# Altium footprint library Logic - Translators, Level Shifters.PcbLib: 3 footprints
Each footprint in its own frame and in the unit in brackets; x right, y up, seen from the top. Pads: shape width x height; smd on the part's side, far side on the other; paste and mask are expansions set on the pad; w line width, h text height; cw(c..) or ccw(c..) is an arc to the next point about the centre after c.
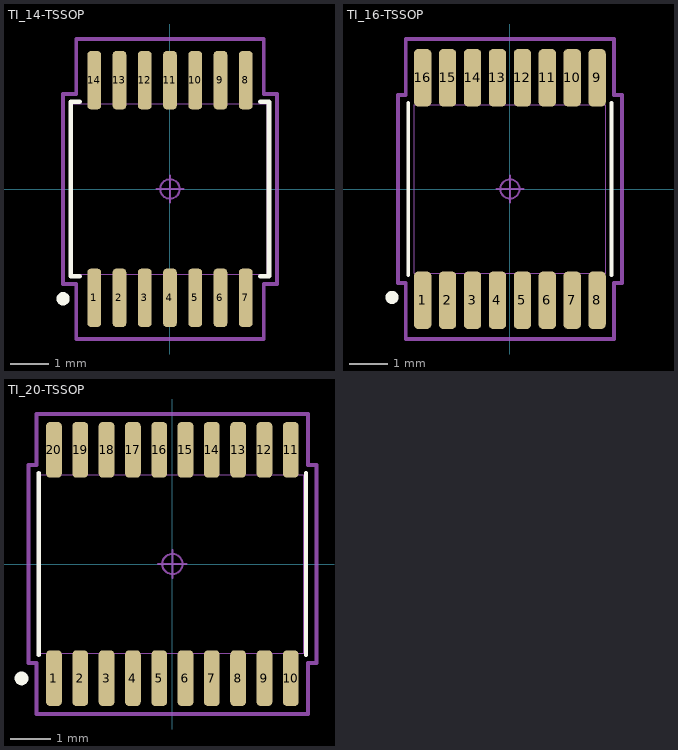
[diagram p0: the footprints below, top view; thin cyan lines are the x and y axes]

## TI_14-TSSOP [mm]
pads (14):
  rrect51% 0.35x1.5 smd mask+0.04: 1(-1.95,-2.8) 2(-1.3,-2.8) 3(-0.65,-2.8) 4(0,-2.8) 5(0.65,-2.8) 6(1.3,-2.8) 7(1.95,-2.8) 8(1.95,2.8) 9(1.3,2.8) 10(0.65,2.8) 11(0,2.8) 12(-0.65,2.8) 13(-1.3,2.8) 14(-1.95,2.8)
Top Overlay:
  circle w0.24: c-2.75,-2.825 r0.05
  lines w0.12: -2.325,-2.25 -2.55,-2.25 -2.55,2.25 -2.325,2.25 ; 2.325,-2.25 2.55,-2.25 2.55,2.25 2.325,2.25
Mechanical 13:
  lines w0.025: -2.5,-2.2 -2.5,2.2 2.5,2.2 2.5,-2.2 -2.5,-2.2 ; -2.073,-3.2 -2.073,-2.575 -1.827,-2.575 -1.827,-3.2 -2.073,-3.2 ; -2.073,2.575 -2.073,3.2 -1.827,3.2 -1.827,2.575 -2.073,2.575 ; -1.422,-3.2 -1.178,-3.2 -1.178,-2.575 -1.422,-2.575 -1.422,-3.2 ; -1.422,2.575 -1.178,2.575 -1.178,3.2 -1.422,3.2 -1.422,2.575 ; -0.773,-3.2 -0.527,-3.2 -0.527,-2.575 -0.773,-2.575 -0.773,-3.2 ; -0.773,2.575 -0.527,2.575 -0.527,3.2 -0.773,3.2 -0.773,2.575 ; -0.122,-3.2 -0.122,-2.575 0.122,-2.575 0.122,-3.2 -0.122,-3.2 ; -0.122,2.575 -0.122,3.2 0.122,3.2 0.122,2.575 -0.122,2.575 ; 0.527,-3.2 0.773,-3.2 0.773,-2.575 0.527,-2.575 0.527,-3.2 ; 0.527,2.575 0.773,2.575 0.773,3.2 0.527,3.2 0.527,2.575 ; 1.178,-3.2 1.422,-3.2 1.422,-2.575 1.178,-2.575 1.178,-3.2 ; 1.178,2.575 1.422,2.575 1.422,3.2 1.178,3.2 1.178,2.575 ; 1.827,-3.2 1.827,-2.575 2.073,-2.575 2.073,-3.2 1.827,-3.2 ; 1.827,2.575 1.827,3.2 2.073,3.2 2.073,2.575 1.827,2.575
Mechanical 15:
  circle w0.05: c0,0 r0.25
  lines w0.05: -0.35,0 0.35,0 ; 0,-0.35 0,0.35
  lines w0.1: -2.75,-2.45 -2.75,2.45 -2.413,2.45 -2.413,3.861 2.413,3.861 2.413,2.45 2.75,2.45 2.75,-2.45 2.413,-2.45 2.413,-3.861 -2.413,-3.861 -2.413,-2.45 -2.75,-2.45
3D body "PW0014A.stp": height 1.13, standoff 0, extent -2.5,-3.2 2.5,3.2

## TI_16-TSSOP [mm]
pads (16):
  rrect51% 0.45x1.5 smd mask+0.04: 1(-2.275,-2.9) 2(-1.625,-2.9) 3(-0.975,-2.9) 4(-0.325,-2.9) 5(0.325,-2.9) 6(0.975,-2.9) 7(1.625,-2.9) 8(2.275,-2.9) 9(2.275,2.9) 10(1.625,2.9) 11(0.975,2.9) 12(0.325,2.9) 13(-0.325,2.9) 14(-0.975,2.9) 15(-1.625,2.9) 16(-2.275,2.9)
Top Overlay:
  circle w0.24: c-3.075,-2.825 r0.05
  lines w0.1: -2.65,-2.25 -2.65,2.25 ; 2.65,-2.25 2.65,2.25
Mechanical 13:
  lines w0.025: -2.5,-2.2 -2.5,2.2 2.5,2.2 2.5,-2.2 -2.5,-2.2 ; -2.398,-3.2 -2.153,-3.2 -2.153,-2.575 -2.398,-2.575 -2.398,-3.2 ; -2.398,2.575 -2.153,2.575 -2.153,3.2 -2.398,3.2 -2.398,2.575 ; -1.747,-3.2 -1.502,-3.2 -1.502,-2.575 -1.747,-2.575 -1.747,-3.2 ; -1.747,2.575 -1.502,2.575 -1.502,3.2 -1.747,3.2 -1.747,2.575 ; -1.098,-3.2 -0.853,-3.2 -0.853,-2.575 -1.098,-2.575 -1.098,-3.2 ; -1.098,2.575 -0.853,2.575 -0.853,3.2 -1.098,3.2 -1.098,2.575 ; -0.447,-3.2 -0.202,-3.2 -0.202,-2.575 -0.447,-2.575 -0.447,-3.2 ; -0.447,2.575 -0.202,2.575 -0.202,3.2 -0.447,3.2 -0.447,2.575 ; 0.202,-3.2 0.447,-3.2 0.447,-2.575 0.202,-2.575 0.202,-3.2 ; 0.202,2.575 0.447,2.575 0.447,3.2 0.202,3.2 0.202,2.575 ; 0.853,-3.2 1.098,-3.2 1.098,-2.575 0.853,-2.575 0.853,-3.2 ; 0.853,2.575 1.098,2.575 1.098,3.2 0.853,3.2 0.853,2.575 ; 1.502,-3.2 1.747,-3.2 1.747,-2.575 1.502,-2.575 1.502,-3.2 ; 1.502,2.575 1.747,2.575 1.747,3.2 1.502,3.2 1.502,2.575 ; 2.153,-3.2 2.398,-3.2 2.398,-2.575 2.153,-2.575 2.153,-3.2 ; 2.153,2.575 2.398,2.575 2.398,3.2 2.153,3.2 2.153,2.575
Mechanical 15:
  circle w0.05: c0,0 r0.25
  lines w0.05: -0.35,0 0.35,0 ; 0,-0.35 0,0.35
  lines w0.1: -2.921,-2.45 -2.921,2.45 -2.718,2.45 -2.718,3.912 2.718,3.912 2.718,2.45 2.921,2.45 2.921,-2.45 2.718,-2.45 2.718,-3.912 -2.718,-3.912 -2.718,-2.45 -2.921,-2.45
3D body "PW0016A.stp": height 1.13, standoff 0, extent -2.5,-3.2 2.5,3.2

## TI_20-TSSOP [mm]
pads (20):
  rrect51% 0.39x1.37 smd mask+0.04: 1(-2.925,-2.82) 2(-2.275,-2.82) 3(-1.625,-2.82) 4(-0.975,-2.82) 5(-0.325,-2.82) 6(0.325,-2.82) 7(0.975,-2.82) 8(1.625,-2.82) 9(2.275,-2.82) 10(2.925,-2.82) 11(2.925,2.82) 12(2.275,2.82) 13(1.625,2.82) 14(0.975,2.82) 15(0.325,2.82) 16(-0.325,2.82) 17(-0.975,2.82) 18(-1.625,2.82) 19(-2.275,2.82) 20(-2.925,2.82)
Top Overlay:
  circle w0.24: c-3.725,-2.825 r0.05
  lines w0.1: -3.3,-2.25 -3.3,2.25 ; 3.3,-2.25 3.3,2.25
Mechanical 13:
  lines w0.025: -3.25,-2.2 -3.25,2.2 3.25,2.2 3.25,-2.2 -3.25,-2.2 ; -3.047,-3.2 -2.802,-3.2 -2.802,-2.575 -3.047,-2.575 -3.047,-3.2 ; -3.047,2.575 -3.047,3.2 -2.802,3.2 -2.802,2.575 -3.047,2.575 ; -2.398,-3.2 -2.153,-3.2 -2.153,-2.575 -2.398,-2.575 -2.398,-3.2 ; -2.398,2.575 -2.398,3.2 -2.153,3.2 -2.153,2.575 -2.398,2.575 ; -1.747,-3.2 -1.502,-3.2 -1.502,-2.575 -1.747,-2.575 -1.747,-3.2 ; -1.747,2.575 -1.747,3.2 -1.502,3.2 -1.502,2.575 -1.747,2.575 ; -1.098,-3.2 -0.853,-3.2 -0.853,-2.575 -1.098,-2.575 -1.098,-3.2 ; -1.098,2.575 -1.098,3.2 -0.853,3.2 -0.853,2.575 -1.098,2.575 ; -0.447,-3.2 -0.202,-3.2 -0.202,-2.575 -0.447,-2.575 -0.447,-3.2 ; -0.447,2.575 -0.447,3.2 -0.202,3.2 -0.202,2.575 -0.447,2.575 ; 0.202,-3.2 0.447,-3.2 0.447,-2.575 0.202,-2.575 0.202,-3.2 ; 0.202,2.575 0.202,3.2 0.447,3.2 0.447,2.575 0.202,2.575 ; 0.853,-3.2 1.098,-3.2 1.098,-2.575 0.853,-2.575 0.853,-3.2 ; 0.853,2.575 0.853,3.2 1.098,3.2 1.098,2.575 0.853,2.575 ; 1.502,-3.2 1.747,-3.2 1.747,-2.575 1.502,-2.575 1.502,-3.2 ; 1.502,2.575 1.502,3.2 1.747,3.2 1.747,2.575 1.502,2.575 ; 2.153,-3.2 2.398,-3.2 2.398,-2.575 2.153,-2.575 2.153,-3.2 ; 2.153,2.575 2.153,3.2 2.398,3.2 2.398,2.575 2.153,2.575 ; 2.802,-3.2 3.047,-3.2 3.047,-2.575 2.802,-2.575 2.802,-3.2 ; 2.802,2.575 2.802,3.2 3.047,3.2 3.047,2.575 2.802,2.575
Mechanical 15:
  circle w0.05: c0,0 r0.25
  lines w0.05: -0.35,0 0.35,0 ; 0,-0.35 0,0.35
  lines w0.1: -3.556,-2.45 -3.353,-2.45 -3.353,-3.705 3.353,-3.705 3.353,-2.45 3.556,-2.45 3.556,2.45 3.353,2.45 3.353,3.705 -3.353,3.705 -3.353,2.45 -3.556,2.45 -3.556,-2.45
3D body "PW0020A.stp": height 1.13, standoff 0, extent -3.25,-3.2 3.25,3.2